# Altium integrated library Motorola Microcontroller 8-Bit.IntLib: 909 symbols (part 1 of 31)
Pins are listed as number, name and electrical type; pins without a type are passive.

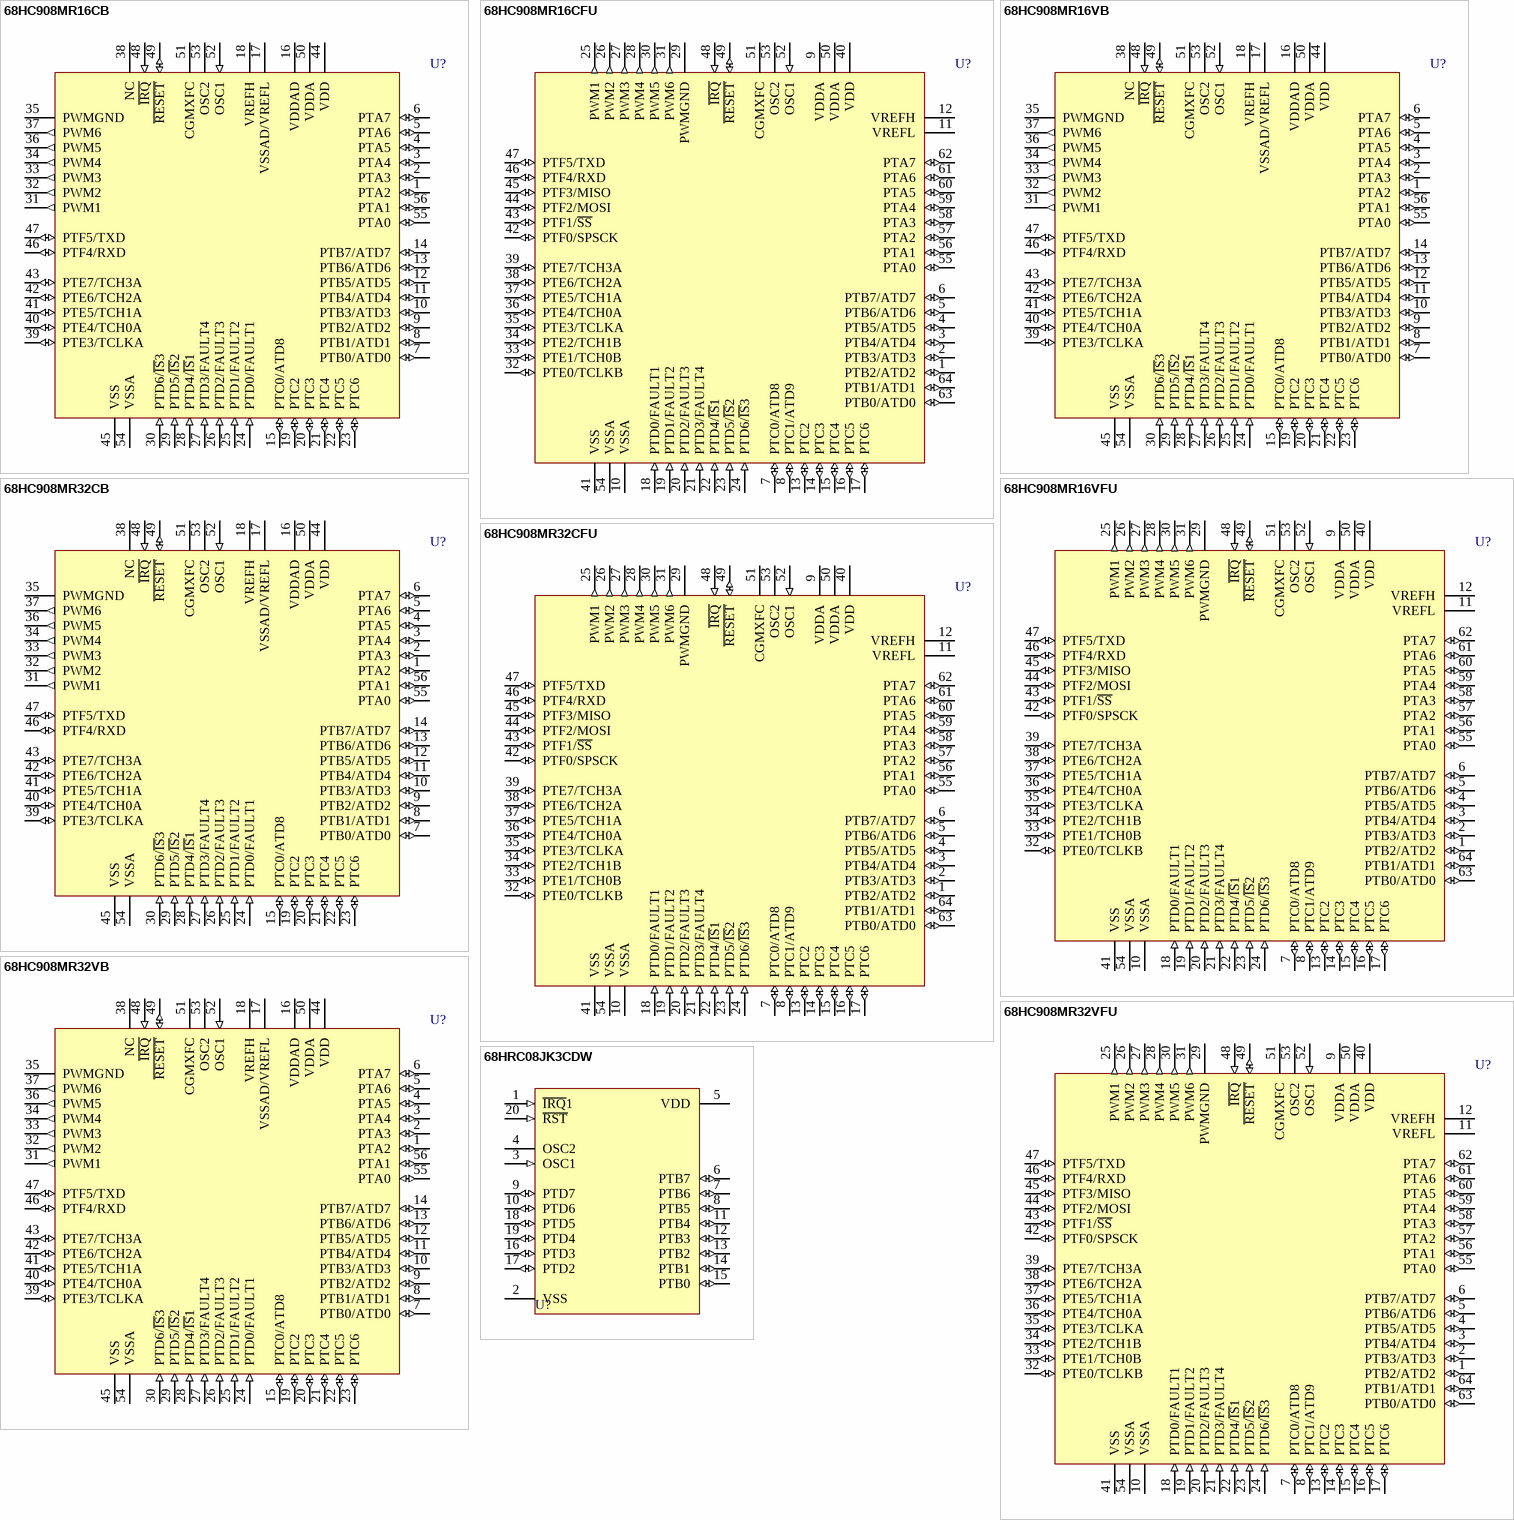
[diagram p0: symbols 68HC908MR16CB to 68HRC08JK3CDW]

## 68HC908MR16CB
designator U?
8-Bit Microcontroller; Note: Connect any unused I/O pins to an appropriate logic level, either VDD or VSS .; Note: Although PWM6–PWM1 do not require termination for proper operation, termination reduces excess current consumption and the possibility of electrostatic damage.; Published: 17-Jan-2003; LatestRevisionDate: 06-Jun-2005; LatestRevisionNote: Stylized 3D Model Added; Device Renamed.; DatasheetVersion: Rev 5, 2001; PackageVersion: rev4, 1999; PackageReference: 859-01; Publisher: Altium Limited; PackageDescription: DIP; 56 Leads; Row Spacing 15.24 mm; Pitch 1.778 mm; ComponentLink1Description: Manufacturer Link; ComponentLink1URL: http://www.freescale.com/; ComponentLink2Description: Datasheet; ComponentLink2URL: http://www.freescale.com/files/microcontrollers/doc/data_sheet/MC68HC908MR32.pdf
footprint 859-01 (DIP; 56 Leads; Row Spacing 15.24 mm; Pitch 1.778 mm)
3D model 859-01 (DIP; 56 Leads; Row Spacing 15.24 mm; Pitch 1.778 mm)
pins: 1 PTA2 (io), 2 PTA3 (io), 3 PTA4 (io), 4 PTA5 (io), 5 PTA6 (io), 6 PTA7 (io), 7 PTB0/ATD0 (io), 8 PTB1/ATD1 (io), 9 PTB2/ATD2 (io), 10 PTB3/ATD3 (io), 11 PTB4/ATD4 (io), 12 PTB5/ATD5 (io), 13 PTB6/ATD6 (io), 14 PTB7/ATD7 (io), 15 PTC0/ATD8 (io), 16 VDDAD (power), 17 VSSAD/VREFL (power), 18 VREFH (power), 19 PTC2 (io), 20 PTC3 (io), 21 PTC4 (io), 22 PTC5 (io), 23 PTC6 (io), 24 PTD0/FAULT1 (in), 25 PTD1/FAULT2 (in), 26 PTD2/FAULT3 (in), 27 PTD3/FAULT4 (in), 28 PTD4/~{IS}1 (in), 29 PTD5/~{IS}2 (in), 30 PTD6/~{IS}3 (in), 31 PWM1 (out), 32 PWM2 (out), 33 PWM3 (out), 34 PWM4 (out), 35 PWMGND (power), 36 PWM5 (out), 37 PWM6 (out), 38 NC, 39 PTE3/TCLKA (io), 40 PTE4/TCH0A (io), 41 PTE5/TCH1A (io), 42 PTE6/TCH2A (io), 43 PTE7/TCH3A (io), 44 VDD (power), 45 VSS (power), 46 PTF4/RXD (io), 47 PTF5/TXD (io), 48 ~{IRQ} (in), 49 ~{RESET} (io), 50 VDDA (power), 51 CGMXFC, 52 OSC1 (in), 53 OSC2, 54 VSSA (power), 55 PTA0 (io), 56 PTA1 (io)

## 68HC908MR16CFU
designator U?
8-Bit Microcontroller; Note: Connect any unused I/O pins to an appropriate logic level, either VDD or VSS .; Note: Although PWM6–PWM1 do not require termination for proper operation, termination reduces excess current consumption and the possibility of electrostatic damage.; Published: 17-Jan-2003; LatestRevisionDate: 13-Apr-2006; LatestRevisionNote: IPC-7351 Footprint Added.; DatasheetVersion: Rev 5, 2001; PackageVersion: rev2, 2000; PackageReference: 840B-01; Publisher: Altium Limited; PackageDescription: 64-Pin Quad Flat Pack 0.8 mm Pitch; Code_IPC: QFP80P1720X1720-64; ComponentLink1Description: Manufacturer Link; ComponentLink1URL: http://www.freescale.com/; ComponentLink2Description: Datasheet; ComponentLink2URL: http://www.freescale.com/files/microcontrollers/doc/data_sheet/MC68HC908MR32.pdf
footprint 840B-01_N (QFP, 64-Leads, Body 14x14mm, Pitch 0.8mm, IPC Medium Density)
footprint 840B-01_L (QFP, 64-Leads, Body 14x14mm, Pitch 0.8mm, IPC High Density)
footprint 840B-01_M (QFP, 64-Leads, Body 14x14mm, Pitch 0.8mm, IPC Low Density)
3D model 68HC908-840B-01 (64-Pin Quad Flat Pack 0.8 mm Pitch)
pins: 1 PTB2/ATD2 (io), 2 PTB3/ATD3 (io), 3 PTB4/ATD4 (io), 4 PTB5/ATD5 (io), 5 PTB6/ATD6 (io), 6 PTB7/ATD7 (io), 7 PTC0/ATD8 (io), 8 PTC1/ATD9 (io), 9 VDDA (power), 10 VSSA (power), 11 VREFL (power), 12 VREFH (power), 13 PTC2 (io), 14 PTC3 (io), 15 PTC4 (io), 16 PTC5 (io), 17 PTC6 (io), 18 PTD0/FAULT1 (in), 19 PTD1/FAULT2 (in), 20 PTD2/FAULT3 (in), 21 PTD3/FAULT4 (in), 22 PTD4/~{IS}1 (in), 23 PTD5/~{IS}2 (in), 24 PTD6/~{IS}3 (in), 25 PWM1 (out), 26 PWM2 (out), 27 PWM3 (out), 28 PWM4 (out), 29 PWMGND (power), 30 PWM5 (out), 31 PWM6 (out), 32 PTE0/TCLKB (io), 33 PTE1/TCH0B (io), 34 PTE2/TCH1B (io), 35 PTE3/TCLKA (io), 36 PTE4/TCH0A (io), 37 PTE5/TCH1A (io), 38 PTE6/TCH2A (io), 39 PTE7/TCH3A (io), 40 VDD (power), 41 VSS (power), 42 PTF0/SPSCK (io), 43 PTF1/~{SS} (io), 44 PTF2/MOSI (io), 45 PTF3/MISO (io), 46 PTF4/RXD (io), 47 PTF5/TXD (io), 48 ~{IRQ} (in), 49 ~{RESET} (io), 50 VDDA (power), 51 CGMXFC, 52 OSC1 (in), 53 OSC2, 54 VSSA (power), 55 PTA0 (io), 56 PTA1 (io), 57 PTA2 (io), 58 PTA3 (io), 59 PTA4 (io), 60 PTA5 (io), 61 PTA6 (io), 62 PTA7 (io), 63 PTB0/ATD0 (io), 64 PTB1/ATD1 (io)

## 68HC908MR16VB
designator U?
8-Bit Microcontroller; Note: Connect any unused I/O pins to an appropriate logic level, either VDD or VSS .; Note: Although PWM6–PWM1 do not require termination for proper operation, termination reduces excess current consumption and the possibility of electrostatic damage.; Published: 17-Jan-2003; LatestRevisionDate: 06-Jun-2005; LatestRevisionNote: Stylized 3D Model Added; Device Renamed.; DatasheetVersion: Rev 5, 2001; PackageVersion: rev4, 1999; PackageReference: 859-01; Publisher: Altium Limited; PackageDescription: DIP; 56 Leads; Row Spacing 15.24 mm; Pitch 1.778 mm; ComponentLink1Description: Manufacturer Link; ComponentLink1URL: http://www.freescale.com/; ComponentLink2Description: Datasheet; ComponentLink2URL: http://www.freescale.com/files/microcontrollers/doc/data_sheet/MC68HC908MR32.pdf
footprint 859-01 (DIP; 56 Leads; Row Spacing 15.24 mm; Pitch 1.778 mm)
3D model 859-01 (DIP; 56 Leads; Row Spacing 15.24 mm; Pitch 1.778 mm)
pins: 1 PTA2 (io), 2 PTA3 (io), 3 PTA4 (io), 4 PTA5 (io), 5 PTA6 (io), 6 PTA7 (io), 7 PTB0/ATD0 (io), 8 PTB1/ATD1 (io), 9 PTB2/ATD2 (io), 10 PTB3/ATD3 (io), 11 PTB4/ATD4 (io), 12 PTB5/ATD5 (io), 13 PTB6/ATD6 (io), 14 PTB7/ATD7 (io), 15 PTC0/ATD8 (io), 16 VDDAD (power), 17 VSSAD/VREFL (power), 18 VREFH (power), 19 PTC2 (io), 20 PTC3 (io), 21 PTC4 (io), 22 PTC5 (io), 23 PTC6 (io), 24 PTD0/FAULT1 (in), 25 PTD1/FAULT2 (in), 26 PTD2/FAULT3 (in), 27 PTD3/FAULT4 (in), 28 PTD4/~{IS}1 (in), 29 PTD5/~{IS}2 (in), 30 PTD6/~{IS}3 (in), 31 PWM1 (out), 32 PWM2 (out), 33 PWM3 (out), 34 PWM4 (out), 35 PWMGND (power), 36 PWM5 (out), 37 PWM6 (out), 38 NC, 39 PTE3/TCLKA (io), 40 PTE4/TCH0A (io), 41 PTE5/TCH1A (io), 42 PTE6/TCH2A (io), 43 PTE7/TCH3A (io), 44 VDD (power), 45 VSS (power), 46 PTF4/RXD (io), 47 PTF5/TXD (io), 48 ~{IRQ} (in), 49 ~{RESET} (io), 50 VDDA (power), 51 CGMXFC, 52 OSC1 (in), 53 OSC2, 54 VSSA (power), 55 PTA0 (io), 56 PTA1 (io)

## 68HC908MR16VFU
designator U?
8-Bit Microcontroller; Note: Connect any unused I/O pins to an appropriate logic level, either VDD or VSS .; Note: Although PWM6–PWM1 do not require termination for proper operation, termination reduces excess current consumption and the possibility of electrostatic damage.; Published: 17-Jan-2003; LatestRevisionDate: 13-Apr-2006; LatestRevisionNote: IPC-7351 Footprint Added.; DatasheetVersion: Rev 5, 2001; PackageVersion: rev2, 2000; PackageReference: 840B-01; Publisher: Altium Limited; PackageDescription: 64-Pin Quad Flat Pack 0.8 mm Pitch; Code_IPC: QFP80P1720X1720-64; ComponentLink1Description: Manufacturer Link; ComponentLink1URL: http://www.freescale.com/; ComponentLink2Description: Datasheet; ComponentLink2URL: http://www.freescale.com/files/microcontrollers/doc/data_sheet/MC68HC908MR32.pdf
footprint 840B-01_N (QFP, 64-Leads, Body 14x14mm, Pitch 0.8mm, IPC Medium Density)
footprint 840B-01_L (QFP, 64-Leads, Body 14x14mm, Pitch 0.8mm, IPC High Density)
footprint 840B-01_M (QFP, 64-Leads, Body 14x14mm, Pitch 0.8mm, IPC Low Density)
3D model 68HC908-840B-01 (64-Pin Quad Flat Pack 0.8 mm Pitch)
pins: 1 PTB2/ATD2 (io), 2 PTB3/ATD3 (io), 3 PTB4/ATD4 (io), 4 PTB5/ATD5 (io), 5 PTB6/ATD6 (io), 6 PTB7/ATD7 (io), 7 PTC0/ATD8 (io), 8 PTC1/ATD9 (io), 9 VDDA (power), 10 VSSA (power), 11 VREFL (power), 12 VREFH (power), 13 PTC2 (io), 14 PTC3 (io), 15 PTC4 (io), 16 PTC5 (io), 17 PTC6 (io), 18 PTD0/FAULT1 (in), 19 PTD1/FAULT2 (in), 20 PTD2/FAULT3 (in), 21 PTD3/FAULT4 (in), 22 PTD4/~{IS}1 (in), 23 PTD5/~{IS}2 (in), 24 PTD6/~{IS}3 (in), 25 PWM1 (out), 26 PWM2 (out), 27 PWM3 (out), 28 PWM4 (out), 29 PWMGND (power), 30 PWM5 (out), 31 PWM6 (out), 32 PTE0/TCLKB (io), 33 PTE1/TCH0B (io), 34 PTE2/TCH1B (io), 35 PTE3/TCLKA (io), 36 PTE4/TCH0A (io), 37 PTE5/TCH1A (io), 38 PTE6/TCH2A (io), 39 PTE7/TCH3A (io), 40 VDD (power), 41 VSS (power), 42 PTF0/SPSCK (io), 43 PTF1/~{SS} (io), 44 PTF2/MOSI (io), 45 PTF3/MISO (io), 46 PTF4/RXD (io), 47 PTF5/TXD (io), 48 ~{IRQ} (in), 49 ~{RESET} (io), 50 VDDA (power), 51 CGMXFC, 52 OSC1 (in), 53 OSC2, 54 VSSA (power), 55 PTA0 (io), 56 PTA1 (io), 57 PTA2 (io), 58 PTA3 (io), 59 PTA4 (io), 60 PTA5 (io), 61 PTA6 (io), 62 PTA7 (io), 63 PTB0/ATD0 (io), 64 PTB1/ATD1 (io)

## 68HC908MR32CB
designator U?
8-Bit Microcontroller; Note: Connect any unused I/O pins to an appropriate logic level, either VDD or VSS .; Note: Although PWM6–PWM1 do not require termination for proper operation, termination reduces excess current consumption and the possibility of electrostatic damage.; Published: 17-Jan-2003; LatestRevisionDate: 06-Jun-2005; LatestRevisionNote: Stylized 3D Model Added; Device Renamed.; DatasheetVersion: Rev 5, 2001; PackageVersion: rev4, 1999; PackageReference: 859-01; Publisher: Altium Limited; PackageDescription: DIP; 56 Leads; Row Spacing 15.24 mm; Pitch 1.778 mm; ComponentLink1Description: Manufacturer Link; ComponentLink1URL: http://www.freescale.com/; ComponentLink2Description: Datasheet; ComponentLink2URL: http://www.freescale.com/files/microcontrollers/doc/data_sheet/MC68HC908MR32.pdf
footprint 859-01 (DIP; 56 Leads; Row Spacing 15.24 mm; Pitch 1.778 mm)
3D model 859-01 (DIP; 56 Leads; Row Spacing 15.24 mm; Pitch 1.778 mm)
pins: 1 PTA2 (io), 2 PTA3 (io), 3 PTA4 (io), 4 PTA5 (io), 5 PTA6 (io), 6 PTA7 (io), 7 PTB0/ATD0 (io), 8 PTB1/ATD1 (io), 9 PTB2/ATD2 (io), 10 PTB3/ATD3 (io), 11 PTB4/ATD4 (io), 12 PTB5/ATD5 (io), 13 PTB6/ATD6 (io), 14 PTB7/ATD7 (io), 15 PTC0/ATD8 (io), 16 VDDAD (power), 17 VSSAD/VREFL (power), 18 VREFH (power), 19 PTC2 (io), 20 PTC3 (io), 21 PTC4 (io), 22 PTC5 (io), 23 PTC6 (io), 24 PTD0/FAULT1 (in), 25 PTD1/FAULT2 (in), 26 PTD2/FAULT3 (in), 27 PTD3/FAULT4 (in), 28 PTD4/~{IS}1 (in), 29 PTD5/~{IS}2 (in), 30 PTD6/~{IS}3 (in), 31 PWM1 (out), 32 PWM2 (out), 33 PWM3 (out), 34 PWM4 (out), 35 PWMGND (power), 36 PWM5 (out), 37 PWM6 (out), 38 NC, 39 PTE3/TCLKA (io), 40 PTE4/TCH0A (io), 41 PTE5/TCH1A (io), 42 PTE6/TCH2A (io), 43 PTE7/TCH3A (io), 44 VDD (power), 45 VSS (power), 46 PTF4/RXD (io), 47 PTF5/TXD (io), 48 ~{IRQ} (in), 49 ~{RESET} (io), 50 VDDA (power), 51 CGMXFC, 52 OSC1 (in), 53 OSC2, 54 VSSA (power), 55 PTA0 (io), 56 PTA1 (io)

## 68HC908MR32CFU
designator U?
8-Bit Microcontroller; Note: Connect any unused I/O pins to an appropriate logic level, either VDD or VSS .; Note: Although PWM6–PWM1 do not require termination for proper operation, termination reduces excess current consumption and the possibility of electrostatic damage.; Published: 17-Jan-2003; LatestRevisionDate: 13-Apr-2006; LatestRevisionNote: IPC-7351 Footprint Added.; DatasheetVersion: Rev 5, 2001; PackageVersion: rev2, 2000; PackageReference: 840B-01; Publisher: Altium Limited; PackageDescription: 64-Pin Quad Flat Pack 0.8 mm Pitch; Code_IPC: QFP80P1720X1720-64; ComponentLink1Description: Manufacturer Link; ComponentLink1URL: http://www.freescale.com/; ComponentLink2Description: Datasheet; ComponentLink2URL: http://www.freescale.com/files/microcontrollers/doc/data_sheet/MC68HC908MR32.pdf
footprint 840B-01_N (QFP, 64-Leads, Body 14x14mm, Pitch 0.8mm, IPC Medium Density)
footprint 840B-01_L (QFP, 64-Leads, Body 14x14mm, Pitch 0.8mm, IPC High Density)
footprint 840B-01_M (QFP, 64-Leads, Body 14x14mm, Pitch 0.8mm, IPC Low Density)
3D model 68HC908-840B-01 (64-Pin Quad Flat Pack 0.8 mm Pitch)
pins: 1 PTB2/ATD2 (io), 2 PTB3/ATD3 (io), 3 PTB4/ATD4 (io), 4 PTB5/ATD5 (io), 5 PTB6/ATD6 (io), 6 PTB7/ATD7 (io), 7 PTC0/ATD8 (io), 8 PTC1/ATD9 (io), 9 VDDA (power), 10 VSSA (power), 11 VREFL (power), 12 VREFH (power), 13 PTC2 (io), 14 PTC3 (io), 15 PTC4 (io), 16 PTC5 (io), 17 PTC6 (io), 18 PTD0/FAULT1 (in), 19 PTD1/FAULT2 (in), 20 PTD2/FAULT3 (in), 21 PTD3/FAULT4 (in), 22 PTD4/~{IS}1 (in), 23 PTD5/~{IS}2 (in), 24 PTD6/~{IS}3 (in), 25 PWM1 (out), 26 PWM2 (out), 27 PWM3 (out), 28 PWM4 (out), 29 PWMGND (power), 30 PWM5 (out), 31 PWM6 (out), 32 PTE0/TCLKB (io), 33 PTE1/TCH0B (io), 34 PTE2/TCH1B (io), 35 PTE3/TCLKA (io), 36 PTE4/TCH0A (io), 37 PTE5/TCH1A (io), 38 PTE6/TCH2A (io), 39 PTE7/TCH3A (io), 40 VDD (power), 41 VSS (power), 42 PTF0/SPSCK (io), 43 PTF1/~{SS} (io), 44 PTF2/MOSI (io), 45 PTF3/MISO (io), 46 PTF4/RXD (io), 47 PTF5/TXD (io), 48 ~{IRQ} (in), 49 ~{RESET} (io), 50 VDDA (power), 51 CGMXFC, 52 OSC1 (in), 53 OSC2, 54 VSSA (power), 55 PTA0 (io), 56 PTA1 (io), 57 PTA2 (io), 58 PTA3 (io), 59 PTA4 (io), 60 PTA5 (io), 61 PTA6 (io), 62 PTA7 (io), 63 PTB0/ATD0 (io), 64 PTB1/ATD1 (io)

## 68HC908MR32VB
designator U?
8-Bit Microcontroller; Note: Connect any unused I/O pins to an appropriate logic level, either VDD or VSS .; Note: Although PWM6–PWM1 do not require termination for proper operation, termination reduces excess current consumption and the possibility of electrostatic damage.; Published: 17-Jan-2003; LatestRevisionDate: 06-Jun-2005; LatestRevisionNote: Stylized 3D Model Added; Device Renamed.; DatasheetVersion: Rev 5, 2001; PackageVersion: rev4, 1999; PackageReference: 859-01; Publisher: Altium Limited; PackageDescription: DIP; 56 Leads; Row Spacing 15.24 mm; Pitch 1.778 mm; ComponentLink1Description: Manufacturer Link; ComponentLink1URL: http://www.freescale.com/; ComponentLink2Description: Datasheet; ComponentLink2URL: http://www.freescale.com/files/microcontrollers/doc/data_sheet/MC68HC908MR32.pdf
footprint 859-01 (DIP; 56 Leads; Row Spacing 15.24 mm; Pitch 1.778 mm)
3D model 859-01 (DIP; 56 Leads; Row Spacing 15.24 mm; Pitch 1.778 mm)
pins: 1 PTA2 (io), 2 PTA3 (io), 3 PTA4 (io), 4 PTA5 (io), 5 PTA6 (io), 6 PTA7 (io), 7 PTB0/ATD0 (io), 8 PTB1/ATD1 (io), 9 PTB2/ATD2 (io), 10 PTB3/ATD3 (io), 11 PTB4/ATD4 (io), 12 PTB5/ATD5 (io), 13 PTB6/ATD6 (io), 14 PTB7/ATD7 (io), 15 PTC0/ATD8 (io), 16 VDDAD (power), 17 VSSAD/VREFL (power), 18 VREFH (power), 19 PTC2 (io), 20 PTC3 (io), 21 PTC4 (io), 22 PTC5 (io), 23 PTC6 (io), 24 PTD0/FAULT1 (in), 25 PTD1/FAULT2 (in), 26 PTD2/FAULT3 (in), 27 PTD3/FAULT4 (in), 28 PTD4/~{IS}1 (in), 29 PTD5/~{IS}2 (in), 30 PTD6/~{IS}3 (in), 31 PWM1 (out), 32 PWM2 (out), 33 PWM3 (out), 34 PWM4 (out), 35 PWMGND (power), 36 PWM5 (out), 37 PWM6 (out), 38 NC, 39 PTE3/TCLKA (io), 40 PTE4/TCH0A (io), 41 PTE5/TCH1A (io), 42 PTE6/TCH2A (io), 43 PTE7/TCH3A (io), 44 VDD (power), 45 VSS (power), 46 PTF4/RXD (io), 47 PTF5/TXD (io), 48 ~{IRQ} (in), 49 ~{RESET} (io), 50 VDDA (power), 51 CGMXFC, 52 OSC1 (in), 53 OSC2, 54 VSSA (power), 55 PTA0 (io), 56 PTA1 (io)

## 68HC908MR32VFU
designator U?
8-Bit Microcontroller; Note: Connect any unused I/O pins to an appropriate logic level, either VDD or VSS .; Note: Although PWM6–PWM1 do not require termination for proper operation, termination reduces excess current consumption and the possibility of electrostatic damage.; Published: 17-Jan-2003; LatestRevisionDate: 13-Apr-2006; LatestRevisionNote: IPC-7351 Footprint Added.; DatasheetVersion: Rev 5, 2001; PackageVersion: rev2, 2000; PackageReference: 840B-01; Publisher: Altium Limited; PackageDescription: 64-Pin Quad Flat Pack 0.8 mm Pitch; Code_IPC: QFP80P1720X1720-64; ComponentLink1Description: Manufacturer Link; ComponentLink1URL: http://www.freescale.com/; ComponentLink2Description: Datasheet; ComponentLink2URL: http://www.freescale.com/files/microcontrollers/doc/data_sheet/MC68HC908MR32.pdf
footprint 840B-01_N (QFP, 64-Leads, Body 14x14mm, Pitch 0.8mm, IPC Medium Density)
footprint 840B-01_L (QFP, 64-Leads, Body 14x14mm, Pitch 0.8mm, IPC High Density)
footprint 840B-01_M (QFP, 64-Leads, Body 14x14mm, Pitch 0.8mm, IPC Low Density)
3D model 68HC908-840B-01 (64-Pin Quad Flat Pack 0.8 mm Pitch)
pins: 1 PTB2/ATD2 (io), 2 PTB3/ATD3 (io), 3 PTB4/ATD4 (io), 4 PTB5/ATD5 (io), 5 PTB6/ATD6 (io), 6 PTB7/ATD7 (io), 7 PTC0/ATD8 (io), 8 PTC1/ATD9 (io), 9 VDDA (power), 10 VSSA (power), 11 VREFL (power), 12 VREFH (power), 13 PTC2 (io), 14 PTC3 (io), 15 PTC4 (io), 16 PTC5 (io), 17 PTC6 (io), 18 PTD0/FAULT1 (in), 19 PTD1/FAULT2 (in), 20 PTD2/FAULT3 (in), 21 PTD3/FAULT4 (in), 22 PTD4/~{IS}1 (in), 23 PTD5/~{IS}2 (in), 24 PTD6/~{IS}3 (in), 25 PWM1 (out), 26 PWM2 (out), 27 PWM3 (out), 28 PWM4 (out), 29 PWMGND (power), 30 PWM5 (out), 31 PWM6 (out), 32 PTE0/TCLKB (io), 33 PTE1/TCH0B (io), 34 PTE2/TCH1B (io), 35 PTE3/TCLKA (io), 36 PTE4/TCH0A (io), 37 PTE5/TCH1A (io), 38 PTE6/TCH2A (io), 39 PTE7/TCH3A (io), 40 VDD (power), 41 VSS (power), 42 PTF0/SPSCK (io), 43 PTF1/~{SS} (io), 44 PTF2/MOSI (io), 45 PTF3/MISO (io), 46 PTF4/RXD (io), 47 PTF5/TXD (io), 48 ~{IRQ} (in), 49 ~{RESET} (io), 50 VDDA (power), 51 CGMXFC, 52 OSC1 (in), 53 OSC2, 54 VSSA (power), 55 PTA0 (io), 56 PTA1 (io), 57 PTA2 (io), 58 PTA3 (io), 59 PTA4 (io), 60 PTA5 (io), 61 PTA6 (io), 62 PTA7 (io), 63 PTB0/ATD0 (io), 64 PTB1/ATD1 (io)

## 68HRC08JK3CDW
designator U?
8-Bit Microcontroller; Note: Connect any unused I/O pins to an appropriate logic level (either VDD or VSS ). Although the I/O ports do not require termination for proper operation, termination reduces excess current consumption and the possibility of electrostatic damage.; Published: 17-Jan-2003; LatestRevisionDate: 13-Apr-2006; LatestRevisionNote: IPC-7351 Footprint Added.; DatasheetVersion: Rev 4, 2000; PackageVersion: rev4.0, 2001; PackageReference: 751D-05; Publisher: Altium Limited; PackageDescription: 20-Pin Plastic Small Outline Integrated Circuit 1.27 mm Pitch; ComponentLink1Description: Manufacturer Link; ComponentLink1URL: http://www.freescale.com/
footprint 751D-05_N (SOIC, 20-Leads, Body 12.8x7.5mm, Pitch 1.27mm, IPC Medium Density)
footprint 751D-05_L (SOIC, 20-Leads, Body 12.8x7.5mm, Pitch 1.27mm, IPC High Density)
footprint 751D-05_M (SOIC, 20-Leads, Body 12.8x7.5mm, Pitch 1.27mm, IPC Low Density)
3D model 751D-05 (20-Pin Plastic Small Outline Integrated Circuit 1.27 mm Pitch)
pins: 1 ~{IRQ}1 (in), 2 VSS (power), 3 OSC1 (in), 4 OSC2, 5 VDD (power), 6 PTB7 (io), 7 PTB6 (io), 8 PTB5 (io), 9 PTD7 (io), 10 PTD6 (io), 11 PTB4 (io), 12 PTB3 (io), 13 PTB2 (io), 14 PTB1 (io), 15 PTB0 (io), 16 PTD3 (io), 17 PTD2 (io), 18 PTD5 (io), 19 PTD4 (io), 20 ~{RST} (in)

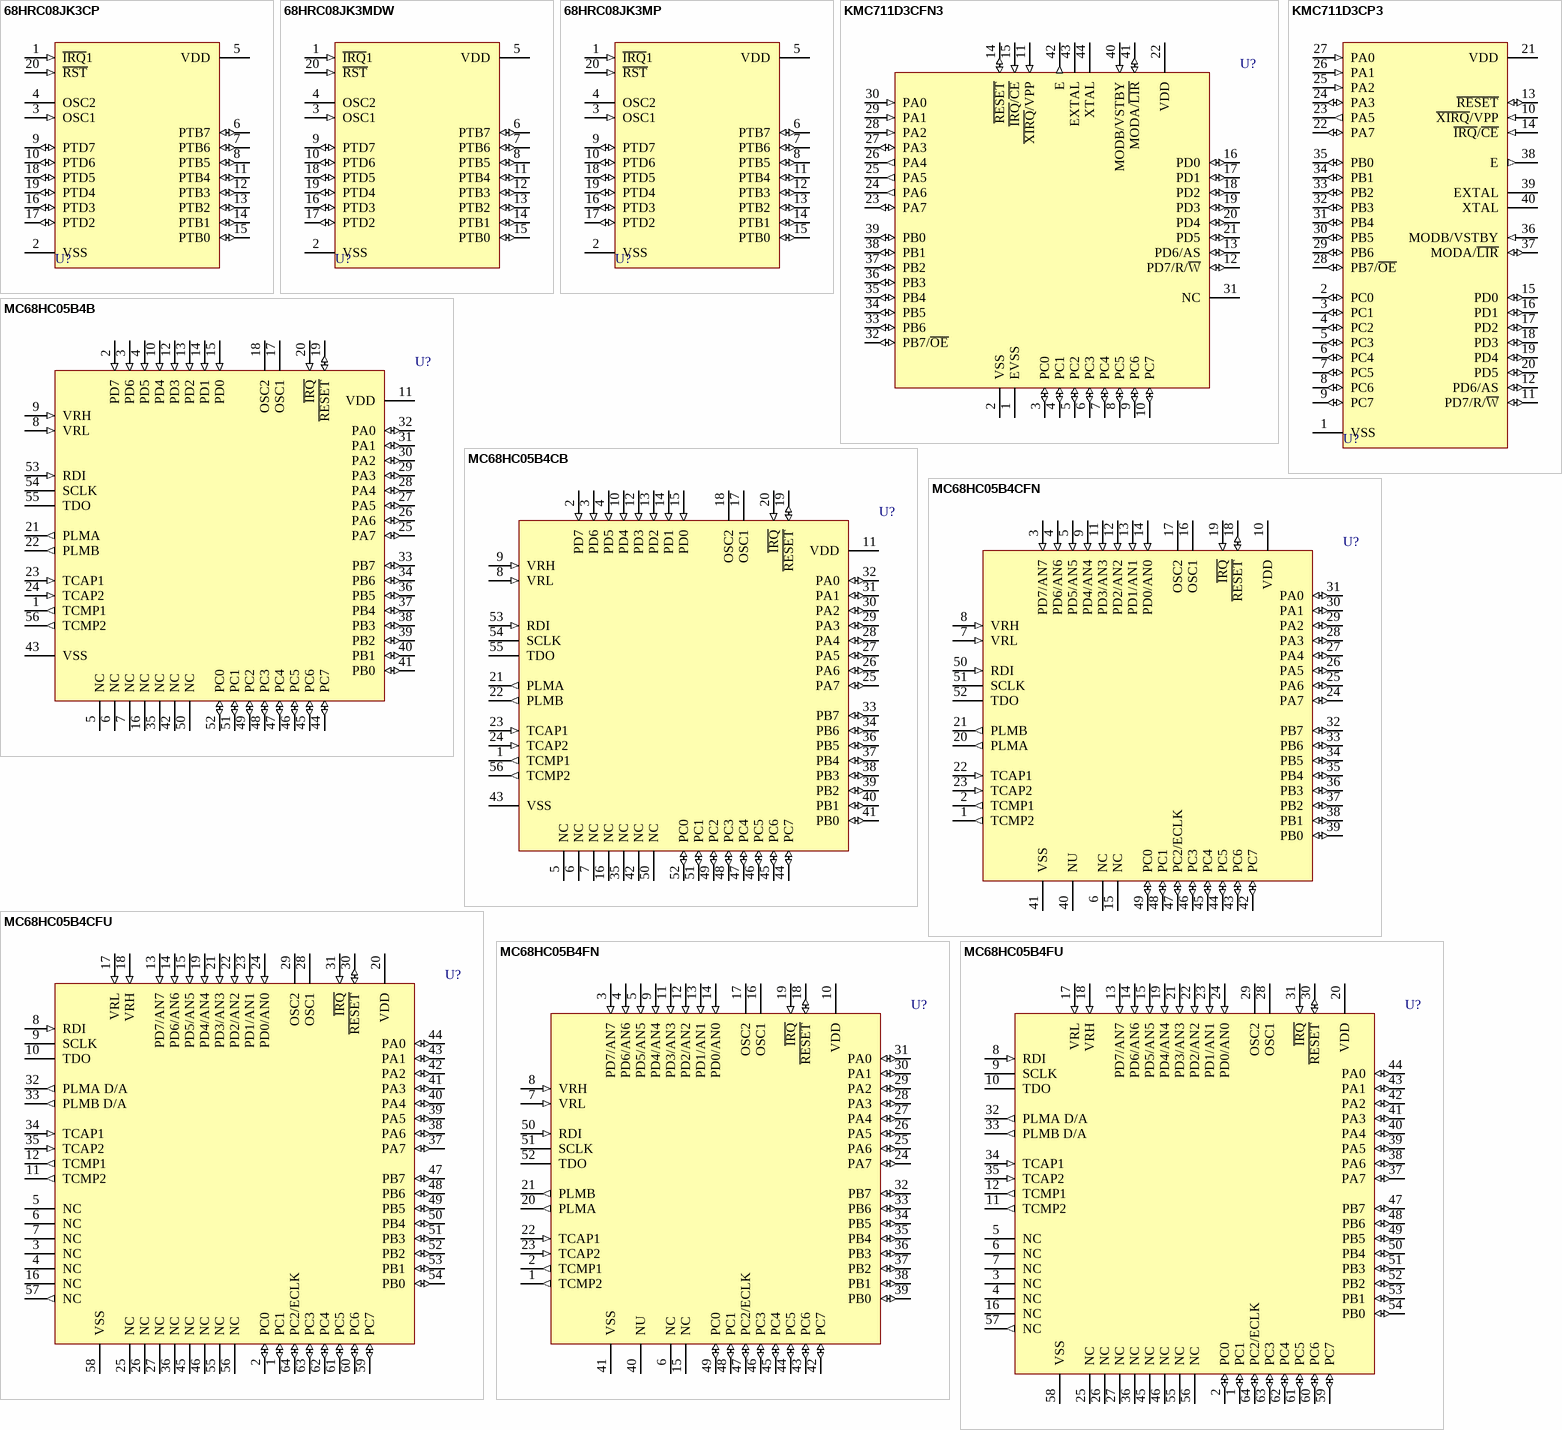
[diagram p1: symbols 68HRC08JK3CP to MC68HC05B4FU]

## 68HRC08JK3CP
designator U?
8-Bit Microcontroller; Note: Connect any unused I/O pins to an appropriate logic level (either VDD or VSS ). Although the I/O ports do not require termination for proper operation, termination reduces excess current consumption and the possibility of electrostatic damage.; Published: 17-Jan-2003; LatestRevisionDate: 06-Jun-2005; LatestRevisionNote: Stylized 3D Model Added.; DatasheetVersion: Rev 4, 2000; PackageReference: 738-03; Publisher: Altium Limited; PackageDescription: DIP; 20 Leads; Row Spacing 7.62 mm; Pitch 2.54 mm; Code_JEDEC: MS-001-AD; ComponentLink1Description: Manufacturer Link; ComponentLink1URL: http://www.freescale.com/
footprint 738-03 (DIP; 20 Leads; Row Spacing 7.62 mm; Pitch 2.54 mm)
3D model 738-03 (DIP; 20 Leads; Row Spacing 7.62 mm; Pitch 2.54 mm)
pins: 1 ~{IRQ}1 (in), 2 VSS (power), 3 OSC1 (in), 4 OSC2, 5 VDD (power), 6 PTB7 (io), 7 PTB6 (io), 8 PTB5 (io), 9 PTD7 (io), 10 PTD6 (io), 11 PTB4 (io), 12 PTB3 (io), 13 PTB2 (io), 14 PTB1 (io), 15 PTB0 (io), 16 PTD3 (io), 17 PTD2 (io), 18 PTD5 (io), 19 PTD4 (io), 20 ~{RST} (in)

## 68HRC08JK3MDW
designator U?
8-Bit Microcontroller; Note: Connect any unused I/O pins to an appropriate logic level (either VDD or VSS ). Although the I/O ports do not require termination for proper operation, termination reduces excess current consumption and the possibility of electrostatic damage.; Published: 17-Jan-2003; LatestRevisionDate: 13-Apr-2006; LatestRevisionNote: IPC-7351 Footprint Added.; DatasheetVersion: Rev 4, 2000; PackageVersion: rev4.0, 2001; PackageReference: 751D-05; Publisher: Altium Limited; PackageDescription: 20-Pin Plastic Small Outline Integrated Circuit 1.27 mm Pitch; ComponentLink1Description: Manufacturer Link; ComponentLink1URL: http://www.freescale.com/
footprint 751D-05_N (SOIC, 20-Leads, Body 12.8x7.5mm, Pitch 1.27mm, IPC Medium Density)
footprint 751D-05_L (SOIC, 20-Leads, Body 12.8x7.5mm, Pitch 1.27mm, IPC High Density)
footprint 751D-05_M (SOIC, 20-Leads, Body 12.8x7.5mm, Pitch 1.27mm, IPC Low Density)
3D model 751D-05 (20-Pin Plastic Small Outline Integrated Circuit 1.27 mm Pitch)
pins: 1 ~{IRQ}1 (in), 2 VSS (power), 3 OSC1 (in), 4 OSC2, 5 VDD (power), 6 PTB7 (io), 7 PTB6 (io), 8 PTB5 (io), 9 PTD7 (io), 10 PTD6 (io), 11 PTB4 (io), 12 PTB3 (io), 13 PTB2 (io), 14 PTB1 (io), 15 PTB0 (io), 16 PTD3 (io), 17 PTD2 (io), 18 PTD5 (io), 19 PTD4 (io), 20 ~{RST} (in)

## 68HRC08JK3MP
designator U?
8-Bit Microcontroller; Note: Connect any unused I/O pins to an appropriate logic level (either VDD or VSS ). Although the I/O ports do not require termination for proper operation, termination reduces excess current consumption and the possibility of electrostatic damage.; Published: 17-Jan-2003; LatestRevisionDate: 06-Jun-2005; LatestRevisionNote: Stylized 3D Model Added.; DatasheetVersion: Rev 4, 2000; PackageReference: 738-03; Publisher: Altium Limited; PackageDescription: DIP; 20 Leads; Row Spacing 7.62 mm; Pitch 2.54 mm; Code_JEDEC: MS-001-AD; ComponentLink1Description: Manufacturer Link; ComponentLink1URL: http://www.freescale.com/
footprint 738-03 (DIP; 20 Leads; Row Spacing 7.62 mm; Pitch 2.54 mm)
3D model 738-03 (DIP; 20 Leads; Row Spacing 7.62 mm; Pitch 2.54 mm)
pins: 1 ~{IRQ}1 (in), 2 VSS (power), 3 OSC1 (in), 4 OSC2, 5 VDD (power), 6 PTB7 (io), 7 PTB6 (io), 8 PTB5 (io), 9 PTD7 (io), 10 PTD6 (io), 11 PTB4 (io), 12 PTB3 (io), 13 PTB2 (io), 14 PTB1 (io), 15 PTB0 (io), 16 PTD3 (io), 17 PTD2 (io), 18 PTD5 (io), 19 PTD4 (io), 20 ~{RST} (in)

## KMC711D3CFN3
designator U?
8-Bit Microcontroller; Note: Sample pack part number.; Published: 17-Jan-2003; LatestRevisionDate: 13-Apr-2006; LatestRevisionNote: IPC-7351 Footprint Added.; DatasheetVersion: 10-Jan-1992; PackageVersion: rev3, Feb-2002; PackageReference: 777-02; Publisher: Altium Limited; PackageDescription: 44-Pin Plastic Leaded Chip Carrier 1.27 mm Pitch; ComponentLink1Description: Manufacturer Link; ComponentLink1URL: http://www.freescale.com/
footprint 777-02_N (Leaded Chip Carrier, 44-Leads, Body 16.6x16.6mm, Pitch 1.27mm, IPC Medium Density)
footprint 777-02_L (Leaded Chip Carrier, 44-Leads, Body 16.6x16.6mm, Pitch 1.27mm, IPC High Density)
footprint 777-02_M (Leaded Chip Carrier, 44-Leads, Body 16.6x16.6mm, Pitch 1.27mm, IPC Low Density)
3D model KMC711-777-02 (44-Pin Plastic Leaded Chip Carrier 1.27 mm Pitch)
pins: 1 EVSS (power), 2 VSS (power), 3 PC0 (io), 4 PC1 (io), 5 PC2 (io), 6 PC3 (io), 7 PC4 (io), 8 PC5 (io), 9 PC6 (io), 10 PC7 (io), 11 ~{XIRQ}/VPP (in), 12 PD7/R/~{W} (io), 13 PD6/AS (io), 14 ~{RESET} (io), 15 ~{IRQ}/~{CE} (in), 16 PD0 (io), 17 PD1 (io), 18 PD2 (io), 19 PD3 (io), 20 PD4 (io), 21 PD5 (io), 22 VDD (power), 23 PA7 (io), 24 PA6 (out), 25 PA5 (out), 26 PA4 (out), 27 PA3 (io), 28 PA2 (in), 29 PA1 (in), 30 PA0 (in), 31 NC, 32 PB7/~{OE} (io), 33 PB6 (io), 34 PB5 (io), 35 PB4 (io), 36 PB3 (io), 37 PB2 (io), 38 PB1 (io), 39 PB0 (io), 40 MODB/VSTBY (in), 41 MODA/~{LIR} (io), 42 E (out), 43 EXTAL, 44 XTAL

## KMC711D3CP3
designator U?
8-Bit Microcontroller; Note: Sample pack part number.; Published: 17-Jan-2003; LatestRevisionDate: 06-Jun-2005; LatestRevisionNote: Stylized 3D Model Added.; DatasheetVersion: 10-Jan-1992; PackageReference: 711-03; Publisher: Altium Limited; PackageDescription: DIP; 40 Leads; Row Spacing 15.24 mm; Pitch 2.54 mm; ComponentLink1Description: Manufacturer Link; ComponentLink1URL: http://www.freescale.com/
footprint 711-03 (DIP; 40 Leads; Row Spacing 15.24 mm; Pitch 2.54 mm)
3D model 711-03 (DIP; 40 Leads; Row Spacing 15.24 mm; Pitch 2.54 mm)
pins: 1 VSS (power), 2 PC0 (io), 3 PC1 (io), 4 PC2 (io), 5 PC3 (io), 6 PC4 (io), 7 PC5 (io), 8 PC6 (io), 9 PC7 (io), 10 ~{XIRQ}/VPP (in), 11 PD7/R/~{W} (io), 12 PD6/AS (io), 13 ~{RESET} (io), 14 ~{IRQ}/~{CE} (in), 15 PD0 (io), 16 PD1 (io), 17 PD2 (io), 18 PD3 (io), 19 PD4 (io), 20 PD5 (io), 21 VDD (power), 22 PA7 (io), 23 PA5 (out), 24 PA3 (io), 25 PA2 (in), 26 PA1 (in), 27 PA0 (in), 28 PB7/~{OE} (io), 29 PB6 (io), 30 PB5 (io), 31 PB4 (io), 32 PB3 (io), 33 PB2 (io), 34 PB1 (io), 35 PB0 (io), 36 MODB/VSTBY (in), 37 MODA/~{LIR} (io), 38 E (out), 39 EXTAL, 40 XTAL

## MC68HC05B4B
designator U?
8-Bit Microcontroller; Published: 17-Jan-2003; LatestRevisionDate: 06-Jun-2005; LatestRevisionNote: Stylized 3D Model Added.; DatasheetVersion: Rev 4, 1999; PackageVersion: rev4, 1999; PackageReference: 859-01; Publisher: Altium Limited; PackageDescription: DIP; 56 Leads; Row Spacing 15.24 mm; Pitch 1.778 mm; ComponentLink1Description: Manufacturer Link; ComponentLink1URL: http://www.freescale.com/; ComponentLink2Description: Datasheet; ComponentLink2URL: http://www.freescale.com/files/microcontrollers/doc/data_sheet/MC68HC05B6.pdf
footprint 859-01 (DIP; 56 Leads; Row Spacing 15.24 mm; Pitch 1.778 mm)
3D model 859-01 (DIP; 56 Leads; Row Spacing 15.24 mm; Pitch 1.778 mm)
pins: 1 TCMP1 (out), 2 PD7 (in), 3 PD6 (in), 4 PD5 (in), 5 NC, 6 NC, 7 NC, 8 VRL (in), 9 VRH (in), 10 PD4 (in), 11 VDD (power), 12 PD3 (in), 13 PD2 (in), 14 PD1 (in), 15 PD0 (in), 16 NC, 17 OSC1, 18 OSC2, 19 ~{RESET} (io), 20 ~{IRQ} (in), 21 PLMA (out), 22 PLMB (out), 23 TCAP1 (in), 24 TCAP2 (in), 25 PA7 (io), 26 PA6 (io), 27 PA5 (io), 28 PA4 (io), 29 PA3 (io), 30 PA2 (io), 31 PA1 (io), 32 PA0 (io), 33 PB7 (io), 34 PB6 (io), 35 NC, 36 PB5 (io), 37 PB4 (io), 38 PB3 (io), 39 PB2 (io), 40 PB1 (io), 41 PB0 (io), 42 NC, 43 VSS (power), 44 PC7 (io), 45 PC6 (io), 46 PC5 (io), 47 PC4 (io), 48 PC3 (io), 49 PC2 (io), 50 NC, 51 PC1 (io), 52 PC0 (io), 53 RDI (in), 54 SCLK (hiz), 55 TDO (hiz), 56 TCMP2 (out)

## MC68HC05B4CB
designator U?
8-Bit Microcontroller; Published: 17-Jan-2003; LatestRevisionDate: 06-Jun-2005; LatestRevisionNote: Stylized 3D Model Added.; DatasheetVersion: Rev 4, 1999; PackageVersion: rev4, 1999; PackageReference: 859-01; Publisher: Altium Limited; PackageDescription: DIP; 56 Leads; Row Spacing 15.24 mm; Pitch 1.778 mm; ComponentLink1Description: Manufacturer Link; ComponentLink1URL: http://www.freescale.com/; ComponentLink2Description: Datasheet; ComponentLink2URL: http://www.freescale.com/files/microcontrollers/doc/data_sheet/MC68HC05B6.pdf
footprint 859-01 (DIP; 56 Leads; Row Spacing 15.24 mm; Pitch 1.778 mm)
3D model 859-01 (DIP; 56 Leads; Row Spacing 15.24 mm; Pitch 1.778 mm)
pins: 1 TCMP1 (out), 2 PD7 (in), 3 PD6 (in), 4 PD5 (in), 5 NC, 6 NC, 7 NC, 8 VRL (in), 9 VRH (in), 10 PD4 (in), 11 VDD (power), 12 PD3 (in), 13 PD2 (in), 14 PD1 (in), 15 PD0 (in), 16 NC, 17 OSC1, 18 OSC2, 19 ~{RESET} (io), 20 ~{IRQ} (in), 21 PLMA (out), 22 PLMB (out), 23 TCAP1 (in), 24 TCAP2 (in), 25 PA7 (io), 26 PA6 (io), 27 PA5 (io), 28 PA4 (io), 29 PA3 (io), 30 PA2 (io), 31 PA1 (io), 32 PA0 (io), 33 PB7 (io), 34 PB6 (io), 35 NC, 36 PB5 (io), 37 PB4 (io), 38 PB3 (io), 39 PB2 (io), 40 PB1 (io), 41 PB0 (io), 42 NC, 43 VSS (power), 44 PC7 (io), 45 PC6 (io), 46 PC5 (io), 47 PC4 (io), 48 PC3 (io), 49 PC2 (io), 50 NC, 51 PC1 (io), 52 PC0 (io), 53 RDI (in), 54 SCLK (hiz), 55 TDO (hiz), 56 TCMP2 (out)

## MC68HC05B4CFN
designator U?
8-Bit Microcontroller; Note: Pin 40 (NU) should be tied to VSS in an electrically noisy environment.; Published: 17-Jan-2003; LatestRevisionDate: 13-Apr-2006; LatestRevisionNote: IPC-7351 Footprint Added.; DatasheetVersion: Rev 4, 1999; PackageVersion: rev3, 1997; PackageReference: 778-02; Publisher: Altium Limited; PackageDescription: 52-Pin Plastic Leaded Chip Carrier 1.27 mm Pitch; ComponentLink1Description: Manufacturer Link; ComponentLink1URL: http://www.freescale.com/; ComponentLink2Description: Datasheet; ComponentLink2URL: http://www.freescale.com/files/microcontrollers/doc/data_sheet/MC68HC05B6.pdf
footprint 778-02_N (Leaded Chip Carrier, 52-Leads, Body 19x19mm, Pitch 1.27mm, IPC Medium Density)
footprint 778-02_L (Leaded Chip Carrier, 52-Leads, Body 19x19mm, Pitch 1.27mm, IPC High Density)
footprint 778-02_M (Leaded Chip Carrier, 52-Leads, Body 19x19mm, Pitch 1.27mm, IPC Low Density)
3D model MC68HC05-778-02 (52-Pin Plastic Leaded Chip Carrier 1.27 mm Pitch)
pins: 1 TCMP2 (out), 2 TCMP1 (out), 3 PD7/AN7 (in), 4 PD6/AN6 (in), 5 PD5/AN5 (in), 6 NC, 7 VRL (in), 8 VRH (in), 9 PD4/AN4 (in), 10 VDD (power), 11 PD3/AN3 (in), 12 PD2/AN2 (in), 13 PD1/AN1 (in), 14 PD0/AN0 (in), 15 NC, 16 OSC1, 17 OSC2, 18 ~{RESET} (io), 19 ~{IRQ} (in), 20 PLMA (out), 21 PLMB (out), 22 TCAP1 (in), 23 TCAP2 (in), 24 PA7 (io), 25 PA6 (io), 26 PA5 (io), 27 PA4 (io), 28 PA3 (io), 29 PA2 (io), 30 PA1 (io), 31 PA0 (io), 32 PB7 (io), 33 PB6 (io), 34 PB5 (io), 35 PB4 (io), 36 PB3 (io), 37 PB2 (io), 38 PB1 (io), 39 PB0 (io), 40 NU, 41 VSS (power), 42 PC7 (io), 43 PC6 (io), 44 PC5 (io), 45 PC4 (io), 46 PC3 (io), 47 PC2/ECLK (io), 48 PC1 (io), 49 PC0 (io), 50 RDI (in), 51 SCLK (hiz), 52 TDO (hiz)

## MC68HC05B4CFU
designator U?
8-Bit Microcontroller; Published: 17-Jan-2003; LatestRevisionDate: 13-Apr-2006; LatestRevisionNote: IPC-7351 Footprint Added.; DatasheetVersion: Rev 4, 1999; PackageVersion: rev4, Jul-2002; PackageReference: 840C; Publisher: Altium Limited; PackageDescription: 64-Pin Quad Flat Pack 0.8 mm Pitch; ComponentLink1Description: Manufacturer Link; ComponentLink1URL: http://www.freescale.com/; ComponentLink2Description: Datasheet; ComponentLink2URL: http://www.freescale.com/files/microcontrollers/doc/data_sheet/MC68HC05B6.pdf
footprint 840C_N (QFP, 64-Leads, Body 14x14mm, Pitch 0.8mm, IPC Medium Density)
footprint 840C_L (QFP, 64-Leads, Body 14x14mm, Pitch 0.8mm, IPC High Density)
footprint 840C_M (QFP, 64-Leads, Body 14x14mm, Pitch 0.8mm, IPC Low Density)
3D model MC68HC05-840C (64-Pin Quad Flat Pack 0.8 mm Pitch)
pins: 1 PC1 (io), 2 PC0 (io), 3 NC, 4 NC, 5 NC, 6 NC, 7 NC, 8 RDI (in), 9 SCLK (hiz), 10 TDO (hiz), 11 TCMP2 (out), 12 TCMP1 (out), 13 PD7/AN7 (in), 14 PD6/AN6 (in), 15 PD5/AN5 (in), 16 NC, 17 VRL (in), 18 VRH (in), 19 PD4/AN4 (in), 20 VDD (power), 21 PD3/AN3 (in), 22 PD2/AN2 (in), 23 PD1/AN1 (in), 24 PD0/AN0 (in), 25 NC, 26 NC, 27 NC, 28 OSC1, 29 OSC2, 30 ~{RESET} (io), 31 ~{IRQ} (in), 32 PLMA D/A (out), 33 PLMB D/A (out), 34 TCAP1 (in), 35 TCAP2 (in), 36 NC, 37 PA7 (io), 38 PA6 (io), 39 PA5 (io), 40 PA4 (io), 41 PA3 (io), 42 PA2 (io), 43 PA1 (io), 44 PA0 (io), 45 NC, 46 NC, 47 PB7 (io), 48 PB6 (io), 49 PB5 (io), 50 PB4 (io), 51 PB3 (io), 52 PB2 (io), 53 PB1 (io), 54 PB0 (io), 55 NC, 56 NC, 57 NC (out), 58 VSS (power), 59 PC7 (io), 60 PC6 (io), 61 PC5 (io), 62 PC4 (io), 63 PC3 (io), 64 PC2/ECLK (io)

## MC68HC05B4FN
designator U?
8-Bit Microcontroller; Note: Pin 40 (NU) should be tied to VSS in an electrically noisy environment.; Published: 17-Jan-2003; LatestRevisionDate: 13-Apr-2006; LatestRevisionNote: IPC-7351 Footprint Added.; DatasheetVersion: Rev 4, 1999; PackageVersion: rev3, 1997; PackageReference: 778-02; Publisher: Altium Limited; PackageDescription: 52-Pin Plastic Leaded Chip Carrier 1.27 mm Pitch; ComponentLink1Description: Manufacturer Link; ComponentLink1URL: http://www.freescale.com/; ComponentLink2Description: Datasheet; ComponentLink2URL: http://www.freescale.com/files/microcontrollers/doc/data_sheet/MC68HC05B6.pdf
footprint 778-02_N (Leaded Chip Carrier, 52-Leads, Body 19x19mm, Pitch 1.27mm, IPC Medium Density)
footprint 778-02_L (Leaded Chip Carrier, 52-Leads, Body 19x19mm, Pitch 1.27mm, IPC High Density)
footprint 778-02_M (Leaded Chip Carrier, 52-Leads, Body 19x19mm, Pitch 1.27mm, IPC Low Density)
3D model MC68HC05-778-02 (52-Pin Plastic Leaded Chip Carrier 1.27 mm Pitch)
pins: 1 TCMP2 (out), 2 TCMP1 (out), 3 PD7/AN7 (in), 4 PD6/AN6 (in), 5 PD5/AN5 (in), 6 NC, 7 VRL (in), 8 VRH (in), 9 PD4/AN4 (in), 10 VDD (power), 11 PD3/AN3 (in), 12 PD2/AN2 (in), 13 PD1/AN1 (in), 14 PD0/AN0 (in), 15 NC, 16 OSC1, 17 OSC2, 18 ~{RESET} (io), 19 ~{IRQ} (in), 20 PLMA (out), 21 PLMB (out), 22 TCAP1 (in), 23 TCAP2 (in), 24 PA7 (io), 25 PA6 (io), 26 PA5 (io), 27 PA4 (io), 28 PA3 (io), 29 PA2 (io), 30 PA1 (io), 31 PA0 (io), 32 PB7 (io), 33 PB6 (io), 34 PB5 (io), 35 PB4 (io), 36 PB3 (io), 37 PB2 (io), 38 PB1 (io), 39 PB0 (io), 40 NU, 41 VSS (power), 42 PC7 (io), 43 PC6 (io), 44 PC5 (io), 45 PC4 (io), 46 PC3 (io), 47 PC2/ECLK (io), 48 PC1 (io), 49 PC0 (io), 50 RDI (in), 51 SCLK (hiz), 52 TDO (hiz)

## MC68HC05B4FU
designator U?
8-Bit Microcontroller; Published: 17-Jan-2003; LatestRevisionDate: 13-Apr-2006; LatestRevisionNote: IPC-7351 Footprint Added.; DatasheetVersion: Rev 4, 1999; PackageVersion: rev4, Jul-2002; PackageReference: 840C; Publisher: Altium Limited; PackageDescription: 64-Pin Quad Flat Pack 0.8 mm Pitch; ComponentLink1Description: Manufacturer Link; ComponentLink1URL: http://www.freescale.com/; ComponentLink2Description: Datasheet; ComponentLink2URL: http://www.freescale.com/files/microcontrollers/doc/data_sheet/MC68HC05B6.pdf
footprint 840C_N (QFP, 64-Leads, Body 14x14mm, Pitch 0.8mm, IPC Medium Density)
footprint 840C_L (QFP, 64-Leads, Body 14x14mm, Pitch 0.8mm, IPC High Density)
footprint 840C_M (QFP, 64-Leads, Body 14x14mm, Pitch 0.8mm, IPC Low Density)
3D model MC68HC05-840C (64-Pin Quad Flat Pack 0.8 mm Pitch)
pins: 1 PC1 (io), 2 PC0 (io), 3 NC, 4 NC, 5 NC, 6 NC, 7 NC, 8 RDI (in), 9 SCLK (hiz), 10 TDO (hiz), 11 TCMP2 (out), 12 TCMP1 (out), 13 PD7/AN7 (in), 14 PD6/AN6 (in), 15 PD5/AN5 (in), 16 NC, 17 VRL (in), 18 VRH (in), 19 PD4/AN4 (in), 20 VDD (power), 21 PD3/AN3 (in), 22 PD2/AN2 (in), 23 PD1/AN1 (in), 24 PD0/AN0 (in), 25 NC, 26 NC, 27 NC, 28 OSC1, 29 OSC2, 30 ~{RESET} (io), 31 ~{IRQ} (in), 32 PLMA D/A (out), 33 PLMB D/A (out), 34 TCAP1 (in), 35 TCAP2 (in), 36 NC, 37 PA7 (io), 38 PA6 (io), 39 PA5 (io), 40 PA4 (io), 41 PA3 (io), 42 PA2 (io), 43 PA1 (io), 44 PA0 (io), 45 NC, 46 NC, 47 PB7 (io), 48 PB6 (io), 49 PB5 (io), 50 PB4 (io), 51 PB3 (io), 52 PB2 (io), 53 PB1 (io), 54 PB0 (io), 55 NC, 56 NC, 57 NC (out), 58 VSS (power), 59 PC7 (io), 60 PC6 (io), 61 PC5 (io), 62 PC4 (io), 63 PC3 (io), 64 PC2/ECLK (io)

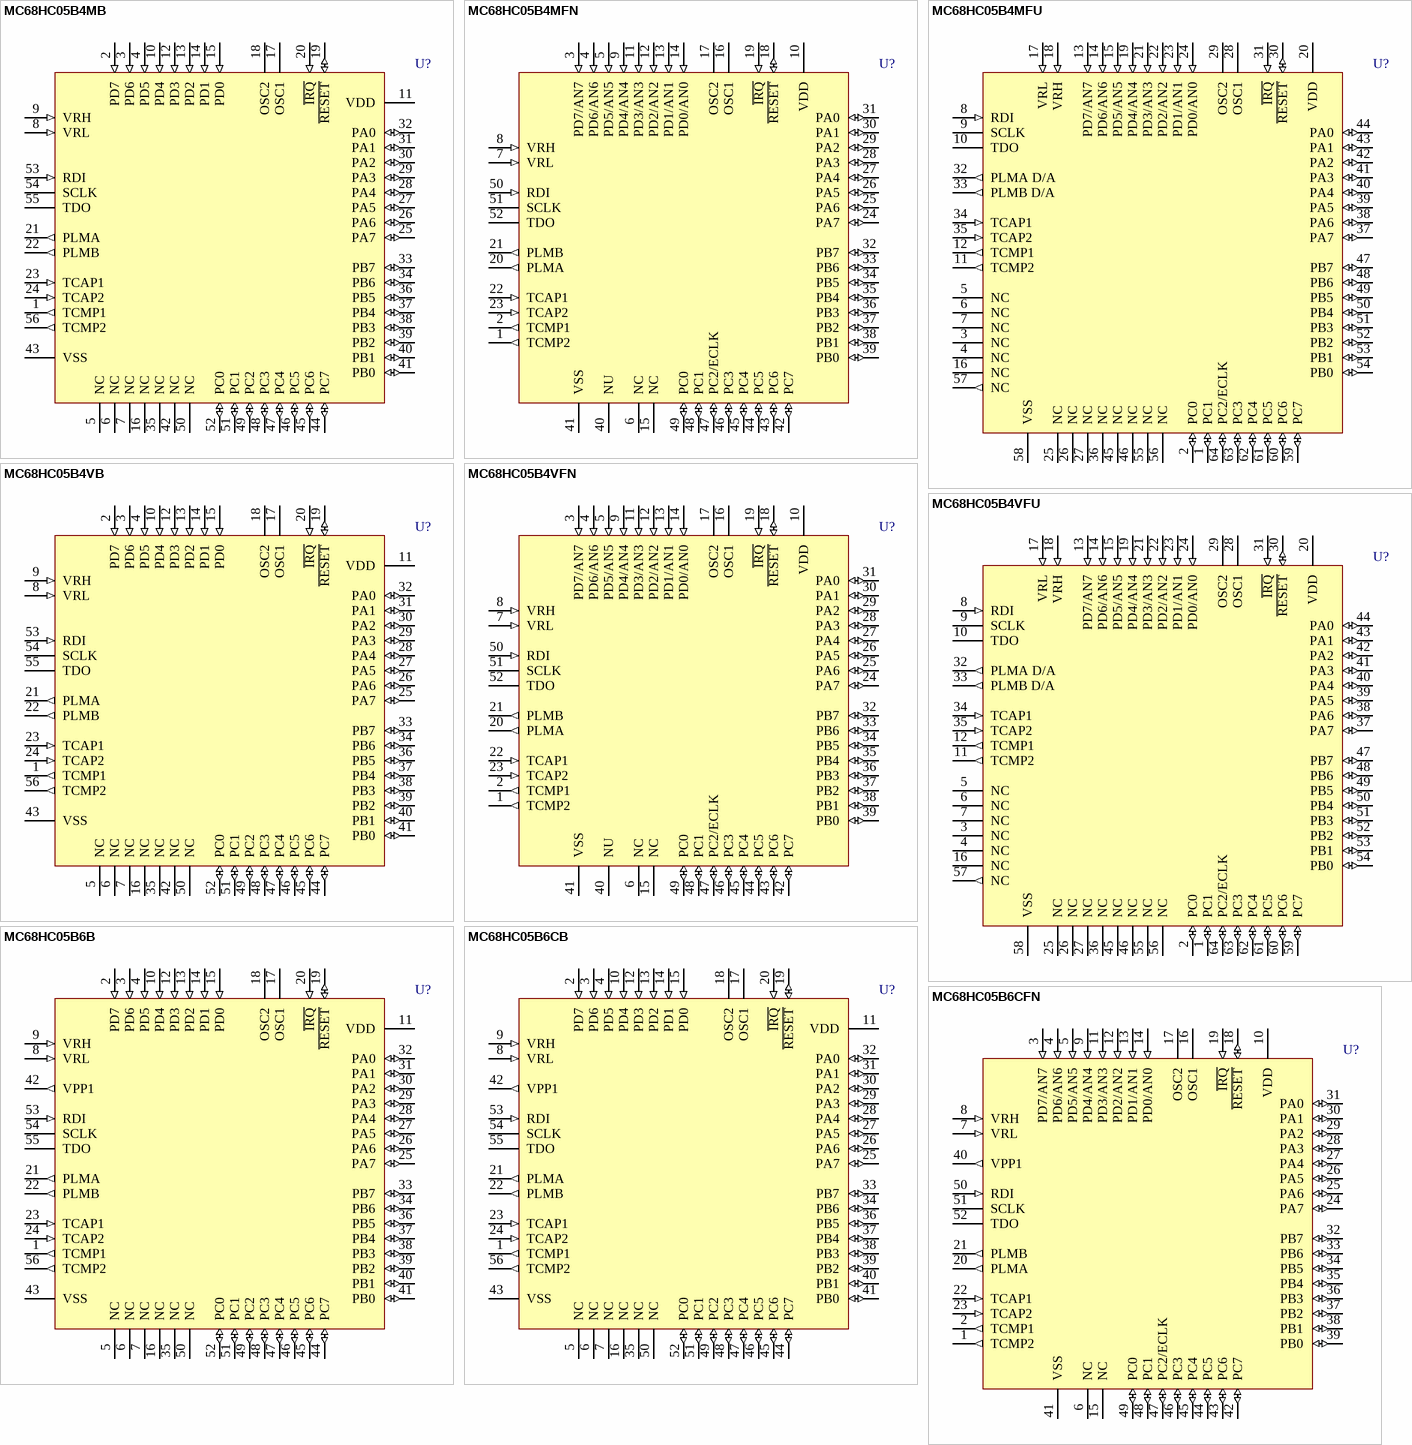
[diagram p2: symbols MC68HC05B4MB to MC68HC05B6CFN]

## MC68HC05B4MB
designator U?
8-Bit Microcontroller; Published: 17-Jan-2003; LatestRevisionDate: 06-Jun-2005; LatestRevisionNote: Stylized 3D Model Added.; DatasheetVersion: Rev 4, 1999; PackageVersion: rev4, 1999; PackageReference: 859-01; Publisher: Altium Limited; PackageDescription: DIP; 56 Leads; Row Spacing 15.24 mm; Pitch 1.778 mm; ComponentLink1Description: Manufacturer Link; ComponentLink1URL: http://www.freescale.com/; ComponentLink2Description: Datasheet; ComponentLink2URL: http://www.freescale.com/files/microcontrollers/doc/data_sheet/MC68HC05B6.pdf
footprint 859-01 (DIP; 56 Leads; Row Spacing 15.24 mm; Pitch 1.778 mm)
3D model 859-01 (DIP; 56 Leads; Row Spacing 15.24 mm; Pitch 1.778 mm)
pins: 1 TCMP1 (out), 2 PD7 (in), 3 PD6 (in), 4 PD5 (in), 5 NC, 6 NC, 7 NC, 8 VRL (in), 9 VRH (in), 10 PD4 (in), 11 VDD (power), 12 PD3 (in), 13 PD2 (in), 14 PD1 (in), 15 PD0 (in), 16 NC, 17 OSC1, 18 OSC2, 19 ~{RESET} (io), 20 ~{IRQ} (in), 21 PLMA (out), 22 PLMB (out), 23 TCAP1 (in), 24 TCAP2 (in), 25 PA7 (io), 26 PA6 (io), 27 PA5 (io), 28 PA4 (io), 29 PA3 (io), 30 PA2 (io), 31 PA1 (io), 32 PA0 (io), 33 PB7 (io), 34 PB6 (io), 35 NC, 36 PB5 (io), 37 PB4 (io), 38 PB3 (io), 39 PB2 (io), 40 PB1 (io), 41 PB0 (io), 42 NC, 43 VSS (power), 44 PC7 (io), 45 PC6 (io), 46 PC5 (io), 47 PC4 (io), 48 PC3 (io), 49 PC2 (io), 50 NC, 51 PC1 (io), 52 PC0 (io), 53 RDI (in), 54 SCLK (hiz), 55 TDO (hiz), 56 TCMP2 (out)

## MC68HC05B4MFN
designator U?
8-Bit Microcontroller; Note: Pin 40 (NU) should be tied to VSS in an electrically noisy environment.; Published: 17-Jan-2003; LatestRevisionDate: 13-Apr-2006; LatestRevisionNote: IPC-7351 Footprint Added.; DatasheetVersion: Rev 4, 1999; PackageVersion: rev3, 1997; PackageReference: 778-02; Publisher: Altium Limited; PackageDescription: 52-Pin Plastic Leaded Chip Carrier 1.27 mm Pitch; ComponentLink1Description: Manufacturer Link; ComponentLink1URL: http://www.freescale.com/; ComponentLink2Description: Datasheet; ComponentLink2URL: http://www.freescale.com/files/microcontrollers/doc/data_sheet/MC68HC05B6.pdf
footprint 778-02_N (Leaded Chip Carrier, 52-Leads, Body 19x19mm, Pitch 1.27mm, IPC Medium Density)
footprint 778-02_L (Leaded Chip Carrier, 52-Leads, Body 19x19mm, Pitch 1.27mm, IPC High Density)
footprint 778-02_M (Leaded Chip Carrier, 52-Leads, Body 19x19mm, Pitch 1.27mm, IPC Low Density)
3D model MC68HC05-778-02 (52-Pin Plastic Leaded Chip Carrier 1.27 mm Pitch)
pins: 1 TCMP2 (out), 2 TCMP1 (out), 3 PD7/AN7 (in), 4 PD6/AN6 (in), 5 PD5/AN5 (in), 6 NC, 7 VRL (in), 8 VRH (in), 9 PD4/AN4 (in), 10 VDD (power), 11 PD3/AN3 (in), 12 PD2/AN2 (in), 13 PD1/AN1 (in), 14 PD0/AN0 (in), 15 NC, 16 OSC1, 17 OSC2, 18 ~{RESET} (io), 19 ~{IRQ} (in), 20 PLMA (out), 21 PLMB (out), 22 TCAP1 (in), 23 TCAP2 (in), 24 PA7 (io), 25 PA6 (io), 26 PA5 (io), 27 PA4 (io), 28 PA3 (io), 29 PA2 (io), 30 PA1 (io), 31 PA0 (io), 32 PB7 (io), 33 PB6 (io), 34 PB5 (io), 35 PB4 (io), 36 PB3 (io), 37 PB2 (io), 38 PB1 (io), 39 PB0 (io), 40 NU, 41 VSS (power), 42 PC7 (io), 43 PC6 (io), 44 PC5 (io), 45 PC4 (io), 46 PC3 (io), 47 PC2/ECLK (io), 48 PC1 (io), 49 PC0 (io), 50 RDI (in), 51 SCLK (hiz), 52 TDO (hiz)

## MC68HC05B4MFU
designator U?
8-Bit Microcontroller; Published: 17-Jan-2003; LatestRevisionDate: 13-Apr-2006; LatestRevisionNote: IPC-7351 Footprint Added.; DatasheetVersion: Rev 4, 1999; PackageVersion: rev4, Jul-2002; PackageReference: 840C; Publisher: Altium Limited; PackageDescription: 64-Pin Quad Flat Pack 0.8 mm Pitch; ComponentLink1Description: Manufacturer Link; ComponentLink1URL: http://www.freescale.com/; ComponentLink2Description: Datasheet; ComponentLink2URL: http://www.freescale.com/files/microcontrollers/doc/data_sheet/MC68HC05B6.pdf
footprint 840C_N (QFP, 64-Leads, Body 14x14mm, Pitch 0.8mm, IPC Medium Density)
footprint 840C_L (QFP, 64-Leads, Body 14x14mm, Pitch 0.8mm, IPC High Density)
footprint 840C_M (QFP, 64-Leads, Body 14x14mm, Pitch 0.8mm, IPC Low Density)
3D model MC68HC05-840C (64-Pin Quad Flat Pack 0.8 mm Pitch)
pins: 1 PC1 (io), 2 PC0 (io), 3 NC, 4 NC, 5 NC, 6 NC, 7 NC, 8 RDI (in), 9 SCLK (hiz), 10 TDO (hiz), 11 TCMP2 (out), 12 TCMP1 (out), 13 PD7/AN7 (in), 14 PD6/AN6 (in), 15 PD5/AN5 (in), 16 NC, 17 VRL (in), 18 VRH (in), 19 PD4/AN4 (in), 20 VDD (power), 21 PD3/AN3 (in), 22 PD2/AN2 (in), 23 PD1/AN1 (in), 24 PD0/AN0 (in), 25 NC, 26 NC, 27 NC, 28 OSC1, 29 OSC2, 30 ~{RESET} (io), 31 ~{IRQ} (in), 32 PLMA D/A (out), 33 PLMB D/A (out), 34 TCAP1 (in), 35 TCAP2 (in), 36 NC, 37 PA7 (io), 38 PA6 (io), 39 PA5 (io), 40 PA4 (io), 41 PA3 (io), 42 PA2 (io), 43 PA1 (io), 44 PA0 (io), 45 NC, 46 NC, 47 PB7 (io), 48 PB6 (io), 49 PB5 (io), 50 PB4 (io), 51 PB3 (io), 52 PB2 (io), 53 PB1 (io), 54 PB0 (io), 55 NC, 56 NC, 57 NC (out), 58 VSS (power), 59 PC7 (io), 60 PC6 (io), 61 PC5 (io), 62 PC4 (io), 63 PC3 (io), 64 PC2/ECLK (io)

## MC68HC05B4VB
designator U?
8-Bit Microcontroller; Published: 17-Jan-2003; LatestRevisionDate: 06-Jun-2005; LatestRevisionNote: Stylized 3D Model Added.; DatasheetVersion: Rev 4, 1999; PackageVersion: rev4, 1999; PackageReference: 859-01; Publisher: Altium Limited; PackageDescription: DIP; 56 Leads; Row Spacing 15.24 mm; Pitch 1.778 mm; ComponentLink1Description: Manufacturer Link; ComponentLink1URL: http://www.freescale.com/; ComponentLink2Description: Datasheet; ComponentLink2URL: http://www.freescale.com/files/microcontrollers/doc/data_sheet/MC68HC05B6.pdf
footprint 859-01 (DIP; 56 Leads; Row Spacing 15.24 mm; Pitch 1.778 mm)
3D model 859-01 (DIP; 56 Leads; Row Spacing 15.24 mm; Pitch 1.778 mm)
pins: 1 TCMP1 (out), 2 PD7 (in), 3 PD6 (in), 4 PD5 (in), 5 NC, 6 NC, 7 NC, 8 VRL (in), 9 VRH (in), 10 PD4 (in), 11 VDD (power), 12 PD3 (in), 13 PD2 (in), 14 PD1 (in), 15 PD0 (in), 16 NC, 17 OSC1, 18 OSC2, 19 ~{RESET} (io), 20 ~{IRQ} (in), 21 PLMA (out), 22 PLMB (out), 23 TCAP1 (in), 24 TCAP2 (in), 25 PA7 (io), 26 PA6 (io), 27 PA5 (io), 28 PA4 (io), 29 PA3 (io), 30 PA2 (io), 31 PA1 (io), 32 PA0 (io), 33 PB7 (io), 34 PB6 (io), 35 NC, 36 PB5 (io), 37 PB4 (io), 38 PB3 (io), 39 PB2 (io), 40 PB1 (io), 41 PB0 (io), 42 NC, 43 VSS (power), 44 PC7 (io), 45 PC6 (io), 46 PC5 (io), 47 PC4 (io), 48 PC3 (io), 49 PC2 (io), 50 NC, 51 PC1 (io), 52 PC0 (io), 53 RDI (in), 54 SCLK (hiz), 55 TDO (hiz), 56 TCMP2 (out)

## MC68HC05B4VFN
designator U?
8-Bit Microcontroller; Note: Pin 40 (NU) should be tied to VSS in an electrically noisy environment.; Published: 17-Jan-2003; LatestRevisionDate: 13-Apr-2006; LatestRevisionNote: IPC-7351 Footprint Added.; DatasheetVersion: Rev 4, 1999; PackageVersion: rev3, 1997; PackageReference: 778-02; Publisher: Altium Limited; PackageDescription: 52-Pin Plastic Leaded Chip Carrier 1.27 mm Pitch; ComponentLink1Description: Manufacturer Link; ComponentLink1URL: http://www.freescale.com/; ComponentLink2Description: Datasheet; ComponentLink2URL: http://www.freescale.com/files/microcontrollers/doc/data_sheet/MC68HC05B6.pdf
footprint 778-02_N (Leaded Chip Carrier, 52-Leads, Body 19x19mm, Pitch 1.27mm, IPC Medium Density)
footprint 778-02_L (Leaded Chip Carrier, 52-Leads, Body 19x19mm, Pitch 1.27mm, IPC High Density)
footprint 778-02_M (Leaded Chip Carrier, 52-Leads, Body 19x19mm, Pitch 1.27mm, IPC Low Density)
3D model MC68HC05-778-02 (52-Pin Plastic Leaded Chip Carrier 1.27 mm Pitch)
pins: 1 TCMP2 (out), 2 TCMP1 (out), 3 PD7/AN7 (in), 4 PD6/AN6 (in), 5 PD5/AN5 (in), 6 NC, 7 VRL (in), 8 VRH (in), 9 PD4/AN4 (in), 10 VDD (power), 11 PD3/AN3 (in), 12 PD2/AN2 (in), 13 PD1/AN1 (in), 14 PD0/AN0 (in), 15 NC, 16 OSC1, 17 OSC2, 18 ~{RESET} (io), 19 ~{IRQ} (in), 20 PLMA (out), 21 PLMB (out), 22 TCAP1 (in), 23 TCAP2 (in), 24 PA7 (io), 25 PA6 (io), 26 PA5 (io), 27 PA4 (io), 28 PA3 (io), 29 PA2 (io), 30 PA1 (io), 31 PA0 (io), 32 PB7 (io), 33 PB6 (io), 34 PB5 (io), 35 PB4 (io), 36 PB3 (io), 37 PB2 (io), 38 PB1 (io), 39 PB0 (io), 40 NU, 41 VSS (power), 42 PC7 (io), 43 PC6 (io), 44 PC5 (io), 45 PC4 (io), 46 PC3 (io), 47 PC2/ECLK (io), 48 PC1 (io), 49 PC0 (io), 50 RDI (in), 51 SCLK (hiz), 52 TDO (hiz)

## MC68HC05B4VFU
designator U?
8-Bit Microcontroller; Published: 17-Jan-2003; LatestRevisionDate: 13-Apr-2006; LatestRevisionNote: IPC-7351 Footprint Added.; DatasheetVersion: Rev 4, 1999; PackageVersion: rev4, Jul-2002; PackageReference: 840C; Publisher: Altium Limited; PackageDescription: 64-Pin Quad Flat Pack 0.8 mm Pitch; ComponentLink1Description: Manufacturer Link; ComponentLink1URL: http://www.freescale.com/; ComponentLink2Description: Datasheet; ComponentLink2URL: http://www.freescale.com/files/microcontrollers/doc/data_sheet/MC68HC05B6.pdf
footprint 840C_N (QFP, 64-Leads, Body 14x14mm, Pitch 0.8mm, IPC Medium Density)
footprint 840C_L (QFP, 64-Leads, Body 14x14mm, Pitch 0.8mm, IPC High Density)
footprint 840C_M (QFP, 64-Leads, Body 14x14mm, Pitch 0.8mm, IPC Low Density)
3D model MC68HC05-840C (64-Pin Quad Flat Pack 0.8 mm Pitch)
pins: 1 PC1 (io), 2 PC0 (io), 3 NC, 4 NC, 5 NC, 6 NC, 7 NC, 8 RDI (in), 9 SCLK (hiz), 10 TDO (hiz), 11 TCMP2 (out), 12 TCMP1 (out), 13 PD7/AN7 (in), 14 PD6/AN6 (in), 15 PD5/AN5 (in), 16 NC, 17 VRL (in), 18 VRH (in), 19 PD4/AN4 (in), 20 VDD (power), 21 PD3/AN3 (in), 22 PD2/AN2 (in), 23 PD1/AN1 (in), 24 PD0/AN0 (in), 25 NC, 26 NC, 27 NC, 28 OSC1, 29 OSC2, 30 ~{RESET} (io), 31 ~{IRQ} (in), 32 PLMA D/A (out), 33 PLMB D/A (out), 34 TCAP1 (in), 35 TCAP2 (in), 36 NC, 37 PA7 (io), 38 PA6 (io), 39 PA5 (io), 40 PA4 (io), 41 PA3 (io), 42 PA2 (io), 43 PA1 (io), 44 PA0 (io), 45 NC, 46 NC, 47 PB7 (io), 48 PB6 (io), 49 PB5 (io), 50 PB4 (io), 51 PB3 (io), 52 PB2 (io), 53 PB1 (io), 54 PB0 (io), 55 NC, 56 NC, 57 NC (out), 58 VSS (power), 59 PC7 (io), 60 PC6 (io), 61 PC5 (io), 62 PC4 (io), 63 PC3 (io), 64 PC2/ECLK (io)

## MC68HC05B6B
designator U?
8-Bit Microcontroller; Published: 17-Jan-2003; LatestRevisionDate: 06-Jun-2005; LatestRevisionNote: Stylized 3D Model Added.; DatasheetVersion: Rev 4, 1999; PackageVersion: rev4, 1999; PackageReference: 859-01; Publisher: Altium Limited; PackageDescription: DIP; 56 Leads; Row Spacing 15.24 mm; Pitch 1.778 mm; ComponentLink1Description: Manufacturer Link; ComponentLink1URL: http://www.freescale.com/; ComponentLink2Description: Datasheet; ComponentLink2URL: http://www.freescale.com/files/microcontrollers/doc/data_sheet/MC68HC05B6.pdf
footprint 859-01 (DIP; 56 Leads; Row Spacing 15.24 mm; Pitch 1.778 mm)
3D model 859-01 (DIP; 56 Leads; Row Spacing 15.24 mm; Pitch 1.778 mm)
pins: 1 TCMP1 (out), 2 PD7 (in), 3 PD6 (in), 4 PD5 (in), 5 NC, 6 NC, 7 NC, 8 VRL (in), 9 VRH (in), 10 PD4 (in), 11 VDD (power), 12 PD3 (in), 13 PD2 (in), 14 PD1 (in), 15 PD0 (in), 16 NC, 17 OSC1, 18 OSC2, 19 ~{RESET} (io), 20 ~{IRQ} (in), 21 PLMA (out), 22 PLMB (out), 23 TCAP1 (in), 24 TCAP2 (in), 25 PA7 (io), 26 PA6 (io), 27 PA5 (io), 28 PA4 (io), 29 PA3 (io), 30 PA2 (io), 31 PA1 (io), 32 PA0 (io), 33 PB7 (io), 34 PB6 (io), 35 NC, 36 PB5 (io), 37 PB4 (io), 38 PB3 (io), 39 PB2 (io), 40 PB1 (io), 41 PB0 (io), 42 VPP1 (out), 43 VSS (power), 44 PC7 (io), 45 PC6 (io), 46 PC5 (io), 47 PC4 (io), 48 PC3 (io), 49 PC2 (io), 50 NC, 51 PC1 (io), 52 PC0 (io), 53 RDI (in), 54 SCLK (hiz), 55 TDO (hiz), 56 TCMP2 (out)

## MC68HC05B6CB
designator U?
8-Bit Microcontroller; Published: 17-Jan-2003; LatestRevisionDate: 06-Jun-2005; LatestRevisionNote: Stylized 3D Model Added.; DatasheetVersion: Rev 4, 1999; PackageVersion: rev4, 1999; PackageReference: 859-01; Publisher: Altium Limited; PackageDescription: DIP; 56 Leads; Row Spacing 15.24 mm; Pitch 1.778 mm; ComponentLink1Description: Manufacturer Link; ComponentLink1URL: http://www.freescale.com/; ComponentLink2Description: Datasheet; ComponentLink2URL: http://www.freescale.com/files/microcontrollers/doc/data_sheet/MC68HC05B6.pdf
footprint 859-01 (DIP; 56 Leads; Row Spacing 15.24 mm; Pitch 1.778 mm)
3D model 859-01 (DIP; 56 Leads; Row Spacing 15.24 mm; Pitch 1.778 mm)
pins: 1 TCMP1 (out), 2 PD7 (in), 3 PD6 (in), 4 PD5 (in), 5 NC, 6 NC, 7 NC, 8 VRL (in), 9 VRH (in), 10 PD4 (in), 11 VDD (power), 12 PD3 (in), 13 PD2 (in), 14 PD1 (in), 15 PD0 (in), 16 NC, 17 OSC1, 18 OSC2, 19 ~{RESET} (io), 20 ~{IRQ} (in), 21 PLMA (out), 22 PLMB (out), 23 TCAP1 (in), 24 TCAP2 (in), 25 PA7 (io), 26 PA6 (io), 27 PA5 (io), 28 PA4 (io), 29 PA3 (io), 30 PA2 (io), 31 PA1 (io), 32 PA0 (io), 33 PB7 (io), 34 PB6 (io), 35 NC, 36 PB5 (io), 37 PB4 (io), 38 PB3 (io), 39 PB2 (io), 40 PB1 (io), 41 PB0 (io), 42 VPP1 (out), 43 VSS (power), 44 PC7 (io), 45 PC6 (io), 46 PC5 (io), 47 PC4 (io), 48 PC3 (io), 49 PC2 (io), 50 NC, 51 PC1 (io), 52 PC0 (io), 53 RDI (in), 54 SCLK (hiz), 55 TDO (hiz), 56 TCMP2 (out)

## MC68HC05B6CFN
designator U?
8-Bit Microcontroller; Published: 17-Jan-2003; LatestRevisionDate: 13-Apr-2006; LatestRevisionNote: IPC-7351 Footprint Added.; DatasheetVersion: Rev 4, 1999; PackageVersion: rev3, 1997; PackageReference: 778-02; Publisher: Altium Limited; PackageDescription: 52-Pin Plastic Leaded Chip Carrier 1.27 mm Pitch; ComponentLink1Description: Manufacturer Link; ComponentLink1URL: http://www.freescale.com/; ComponentLink2Description: Datasheet; ComponentLink2URL: http://www.freescale.com/files/microcontrollers/doc/data_sheet/MC68HC05B6.pdf
footprint 778-02_N (Leaded Chip Carrier, 52-Leads, Body 19x19mm, Pitch 1.27mm, IPC Medium Density)
footprint 778-02_L (Leaded Chip Carrier, 52-Leads, Body 19x19mm, Pitch 1.27mm, IPC High Density)
footprint 778-02_M (Leaded Chip Carrier, 52-Leads, Body 19x19mm, Pitch 1.27mm, IPC Low Density)
3D model MC68HC05-778-02 (52-Pin Plastic Leaded Chip Carrier 1.27 mm Pitch)
pins: 1 TCMP2 (out), 2 TCMP1 (out), 3 PD7/AN7 (in), 4 PD6/AN6 (in), 5 PD5/AN5 (in), 6 NC, 7 VRL (in), 8 VRH (in), 9 PD4/AN4 (in), 10 VDD (power), 11 PD3/AN3 (in), 12 PD2/AN2 (in), 13 PD1/AN1 (in), 14 PD0/AN0 (in), 15 NC, 16 OSC1, 17 OSC2, 18 ~{RESET} (io), 19 ~{IRQ} (in), 20 PLMA (out), 21 PLMB (out), 22 TCAP1 (in), 23 TCAP2 (in), 24 PA7 (io), 25 PA6 (io), 26 PA5 (io), 27 PA4 (io), 28 PA3 (io), 29 PA2 (io), 30 PA1 (io), 31 PA0 (io), 32 PB7 (io), 33 PB6 (io), 34 PB5 (io), 35 PB4 (io), 36 PB3 (io), 37 PB2 (io), 38 PB1 (io), 39 PB0 (io), 40 VPP1 (out), 41 VSS (power), 42 PC7 (io), 43 PC6 (io), 44 PC5 (io), 45 PC4 (io), 46 PC3 (io), 47 PC2/ECLK (io), 48 PC1 (io), 49 PC0 (io), 50 RDI (in), 51 SCLK (hiz), 52 TDO (hiz)

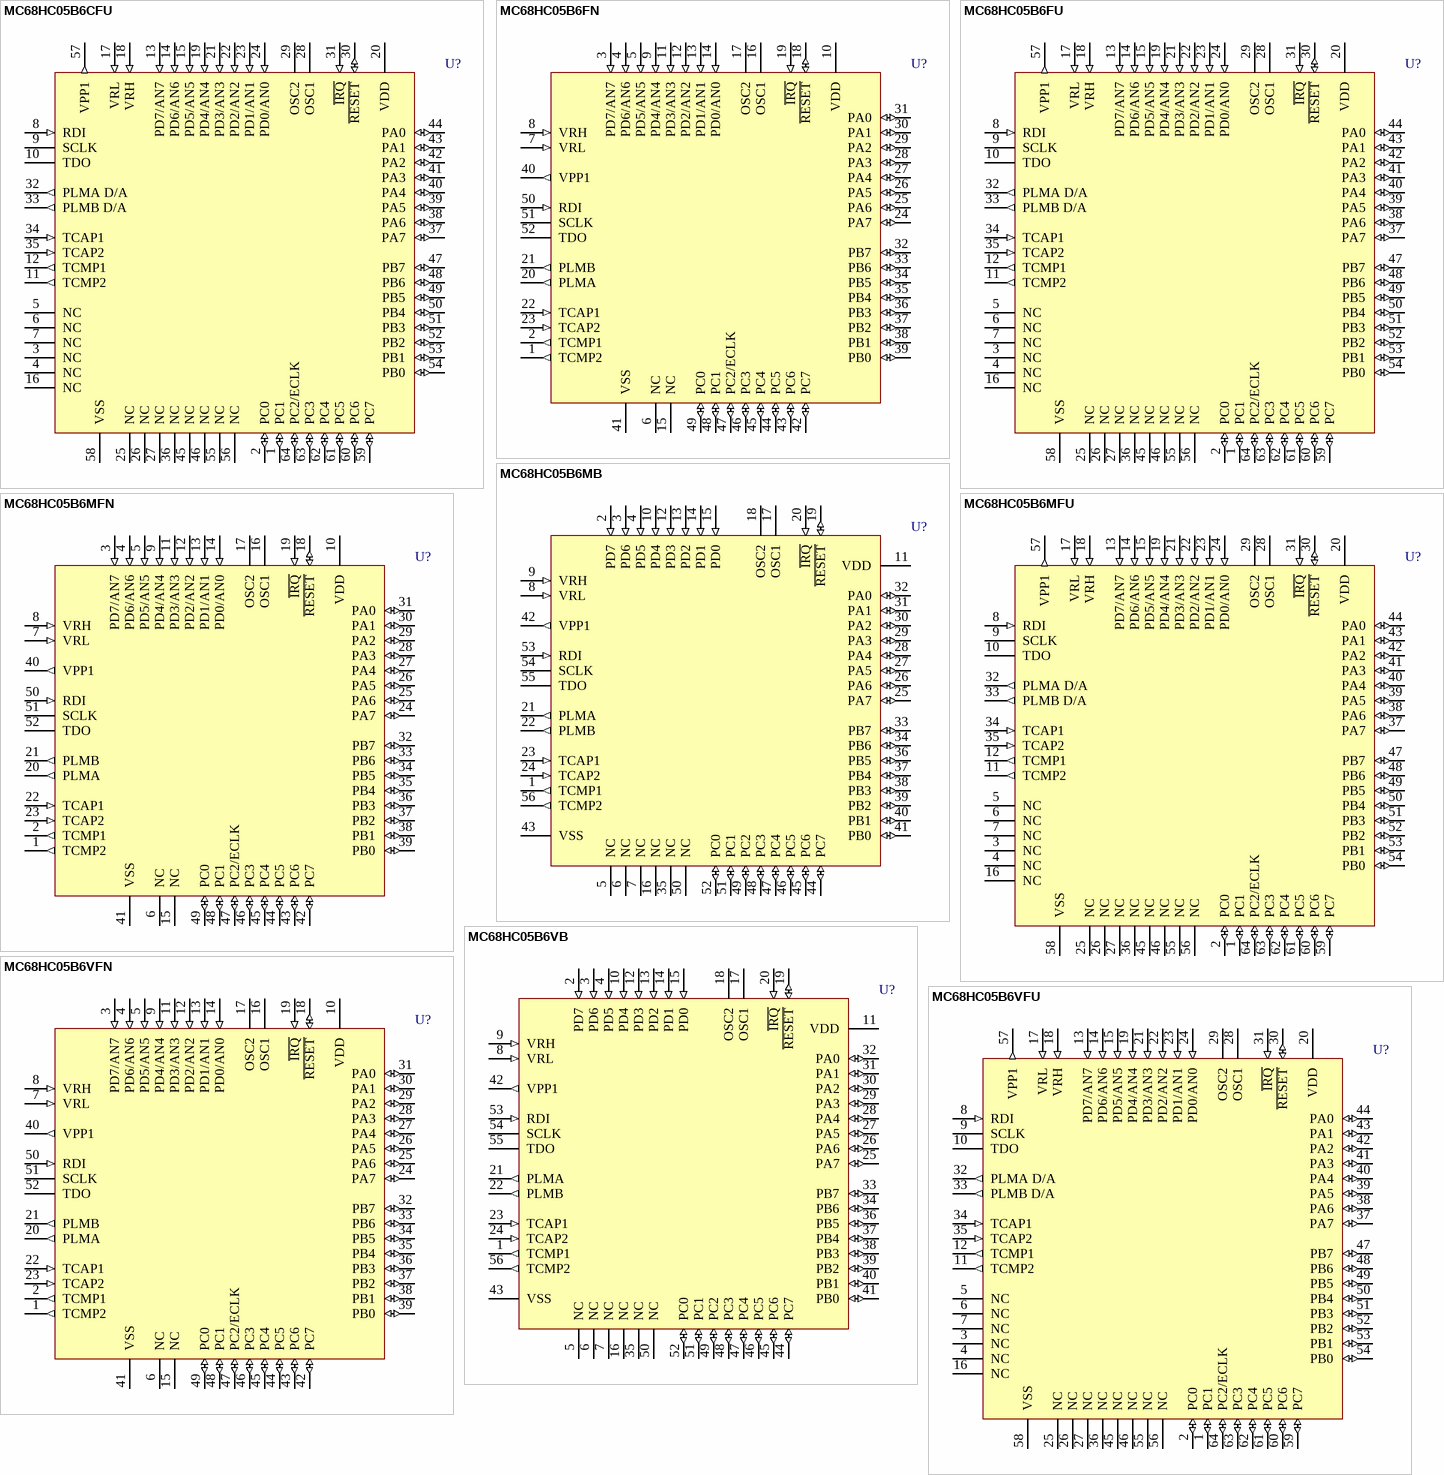
[diagram p3: symbols MC68HC05B6CFU to MC68HC05B6VFU]

## MC68HC05B6CFU
designator U?
8-Bit Microcontroller; Published: 17-Jan-2003; LatestRevisionDate: 13-Apr-2006; LatestRevisionNote: IPC-7351 Footprint Added.; DatasheetVersion: Rev 4, 1999; PackageVersion: rev4, Jul-2002; PackageReference: 840C; Publisher: Altium Limited; PackageDescription: 64-Pin Quad Flat Pack 0.8 mm Pitch; ComponentLink1Description: Manufacturer Link; ComponentLink1URL: http://www.freescale.com/; ComponentLink2Description: Datasheet; ComponentLink2URL: http://www.freescale.com/files/microcontrollers/doc/data_sheet/MC68HC05B6.pdf
footprint 840C_N (QFP, 64-Leads, Body 14x14mm, Pitch 0.8mm, IPC Medium Density)
footprint 840C_L (QFP, 64-Leads, Body 14x14mm, Pitch 0.8mm, IPC High Density)
footprint 840C_M (QFP, 64-Leads, Body 14x14mm, Pitch 0.8mm, IPC Low Density)
3D model MC68HC05-840C (64-Pin Quad Flat Pack 0.8 mm Pitch)
pins: 1 PC1 (io), 2 PC0 (io), 3 NC, 4 NC, 5 NC, 6 NC, 7 NC, 8 RDI (in), 9 SCLK (hiz), 10 TDO (hiz), 11 TCMP2 (out), 12 TCMP1 (out), 13 PD7/AN7 (in), 14 PD6/AN6 (in), 15 PD5/AN5 (in), 16 NC, 17 VRL (in), 18 VRH (in), 19 PD4/AN4 (in), 20 VDD (power), 21 PD3/AN3 (in), 22 PD2/AN2 (in), 23 PD1/AN1 (in), 24 PD0/AN0 (in), 25 NC, 26 NC, 27 NC, 28 OSC1, 29 OSC2, 30 ~{RESET} (io), 31 ~{IRQ} (in), 32 PLMA D/A (out), 33 PLMB D/A (out), 34 TCAP1 (in), 35 TCAP2 (in), 36 NC, 37 PA7 (io), 38 PA6 (io), 39 PA5 (io), 40 PA4 (io), 41 PA3 (io), 42 PA2 (io), 43 PA1 (io), 44 PA0 (io), 45 NC, 46 NC, 47 PB7 (io), 48 PB6 (io), 49 PB5 (io), 50 PB4 (io), 51 PB3 (io), 52 PB2 (io), 53 PB1 (io), 54 PB0 (io), 55 NC, 56 NC, 57 VPP1 (out), 58 VSS (power), 59 PC7 (io), 60 PC6 (io), 61 PC5 (io), 62 PC4 (io), 63 PC3 (io), 64 PC2/ECLK (io)